# Altium schematic symbol library UM982.SchLib: 3 symbols
Pins are listed as number, name and electrical type; pins without a type are passive.

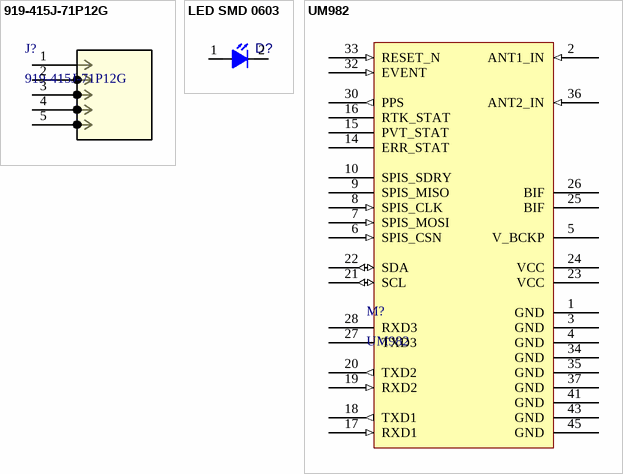
[diagram p0: symbols 919-415J-71P12G to UM982]

## 919-415J-71P12G
designator J?
No Description Available; Manufacturer_Name: Amphenol ICC; Type: Coaxial Connectors(RF) Assemblies; Copyright: Copyright (C) 2025 Ultra Librarian. All rights reserved.; Manufacturer_Part_Number: 919-415J-71P12G; RefDes: RefDes
footprint COAX4GND_919-415J-71P12G_AMP
pins: 1       SIGNAL, 2       GND, 3       GND, 4       GND, 5       GND

## LED SMD 0603
designator D?
LED SMD 0603; ComponentLink1Description: Tarahiboard; ComponentLink1URL: https://www.tarahiboard.com/product/library-pack; DatasheetVersion: 2022
footprint LED SMD 0603 (Blue) ((Make www.tarahiboard.com))
footprint LED SMD 0603 (green) ((Make www.tarahiboard.com))
footprint LED SMD 0603 (Orange) ((Make www.tarahiboard.com))
footprint LED SMD 0603 (Red) ((Make www.tarahiboard.com))
footprint LED SMD 0603 (White) ((Make www.tarahiboard.com))
footprint LED SMD 0603 (Yellow) ((Make www.tarahiboard.com))
footprint LED SMD 0603 2 (Green) ((Make www.tarahiboard.com))
pins: 1 ANODE, 2 CATHODE

## UM982
designator M?
All-constellation Multi-frequencyHigh Precision Positioning & Heading Module
footprint UM982
pins: 1 GND, 2 ANT1_IN (in), 3 GND, 4 GND, 5 V_BCKP, 6 SPIS_CSN (in), 7 SPIS_MOSI (in), 8 SPIS_CLK (in), 9 SPIS_MISO, 10 SPIS_SDRY, 14 ERR_STAT "Error status: active high;", 15 PVT_STAT "PVT status: active high;", 16 RTK_STAT "RTK status: active high;", 17 RXD1 (in), 18 TXD1 (out), 19 RXD2 (in), 20 TXD2 (out), 21 SCL (io), 22 SDA (io), 23 VCC (power), 24 VCC (power), 25 BIF "Built-in function", 26 BIF "Built-in function", 27 TXD3, 28 RXD3, 30 PPS (out), 32 EVENT (in), 33 RESET_N (in), 34 GND, 35 GND, 36 ANT2_IN (in), 37 GND, 41 GND, 43 GND, 45 GND